# Altium footprint library BB_LIBRERIA.PcbLib: 3 footprints
Each footprint in its own frame and in the unit in brackets; x right, y up, seen from the top. Pads: shape width x height; smd on the part's side, far side on the other; paste and mask are expansions set on the pad; w line width, h text height; cw(c..) or ccw(c..) is an arc to the next point about the centre after c.
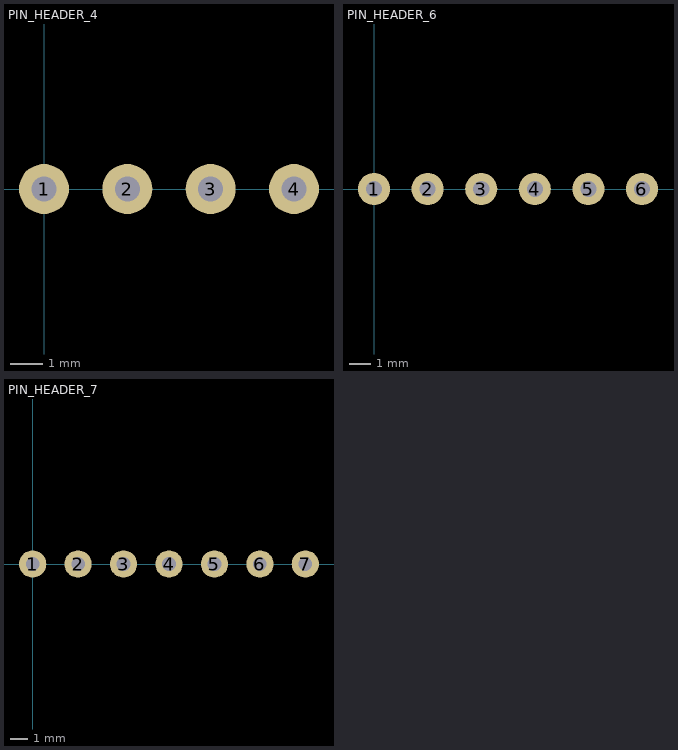
[diagram p0: the footprints below, top view; thin cyan lines are the x and y axes]

## PIN_HEADER_4 [mil]
pads (4):
  round 60 hole 30: 1(0,0) 2(100,0) 3(200,0) 4(300,0)

## PIN_HEADER_6 [mil]
pads (6):
  round 60 hole 30: 1(0,0) 2(100,0) 3(200,0) 4(300,0) 5(400,0) 6(500,0)
3D body "PinHeader_1x06_P2.54mm_Vertical.step": height 336.22, standoff -118.11, extent -50,-49.99 550,50.01

## PIN_HEADER_7 [mil]
pads (7):
  round 60 hole 30: 1(0,0) 2(100,0) 3(200,0) 4(300,0) 5(400,0) 6(500,0) 7(600,0)
3D body "PinHeader_1x07_P2.54mm_Vertical.step": height 336.22, standoff -118.11, extent -50,-49.99 650,50.01